# EAGLE library part RN42XV (library RN42XV)
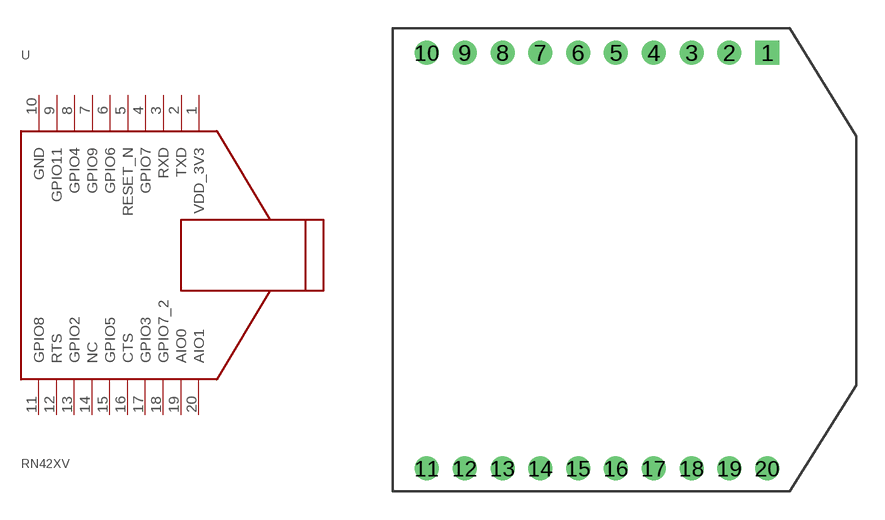
[diagram p0: symbol with the pads of RN42XV; footprint RN42XV]

Designator prefix -

## RN42XV  [RN42XV]
1  VDD_3V3  pwr
2  TXD
3  RXD
4  GPIO7
5  RESET_N
6  GPIO6
7  GPIO9
8  GPIO4
9  GPIO11
10  GND  pwr
11  GPIO8
12  RTS
13  GPIO2
14  NC  nc
15  GPIO5
16  CTS
17  GPIO3
18  GPIO7_2
19  AIO0
20  AIO1

## Footprint RN42XV (pad centres in mm)
drill 0.7 pad 1.27 square: 1 19.8,23.2
drill 0.75 pad 1.27: 2 17.8,23.2; 3 15.8,23.2; 4 13.8,23.2; 5 11.8,23.2; 6 9.8,23.2; 7 7.8,23.2; 8 5.8,23.2; 9 3.8,23.2; 10 1.8,23.2; 11 1.8,1.2; 12 3.8,1.2; 13 5.8,1.2; 14 7.8,1.2; 15 9.8,1.2; 16 11.8,1.2; 17 13.8,1.2; 18 15.8,1.2; 19 17.8,1.2; 20 19.8,1.2